# Altium footprint library HV9006_MEASUREBOARD.PCBLIB: 292 footprints (part 16 of 19)
Each footprint in its own frame and in the unit in brackets; x right, y up, seen from the top. Pads: shape width x height; smd on the part's side, far side on the other; paste and mask are expansions set on the pad; w line width, h text height; cw(c..) or ccw(c..) is an arc to the next point about the centre after c.
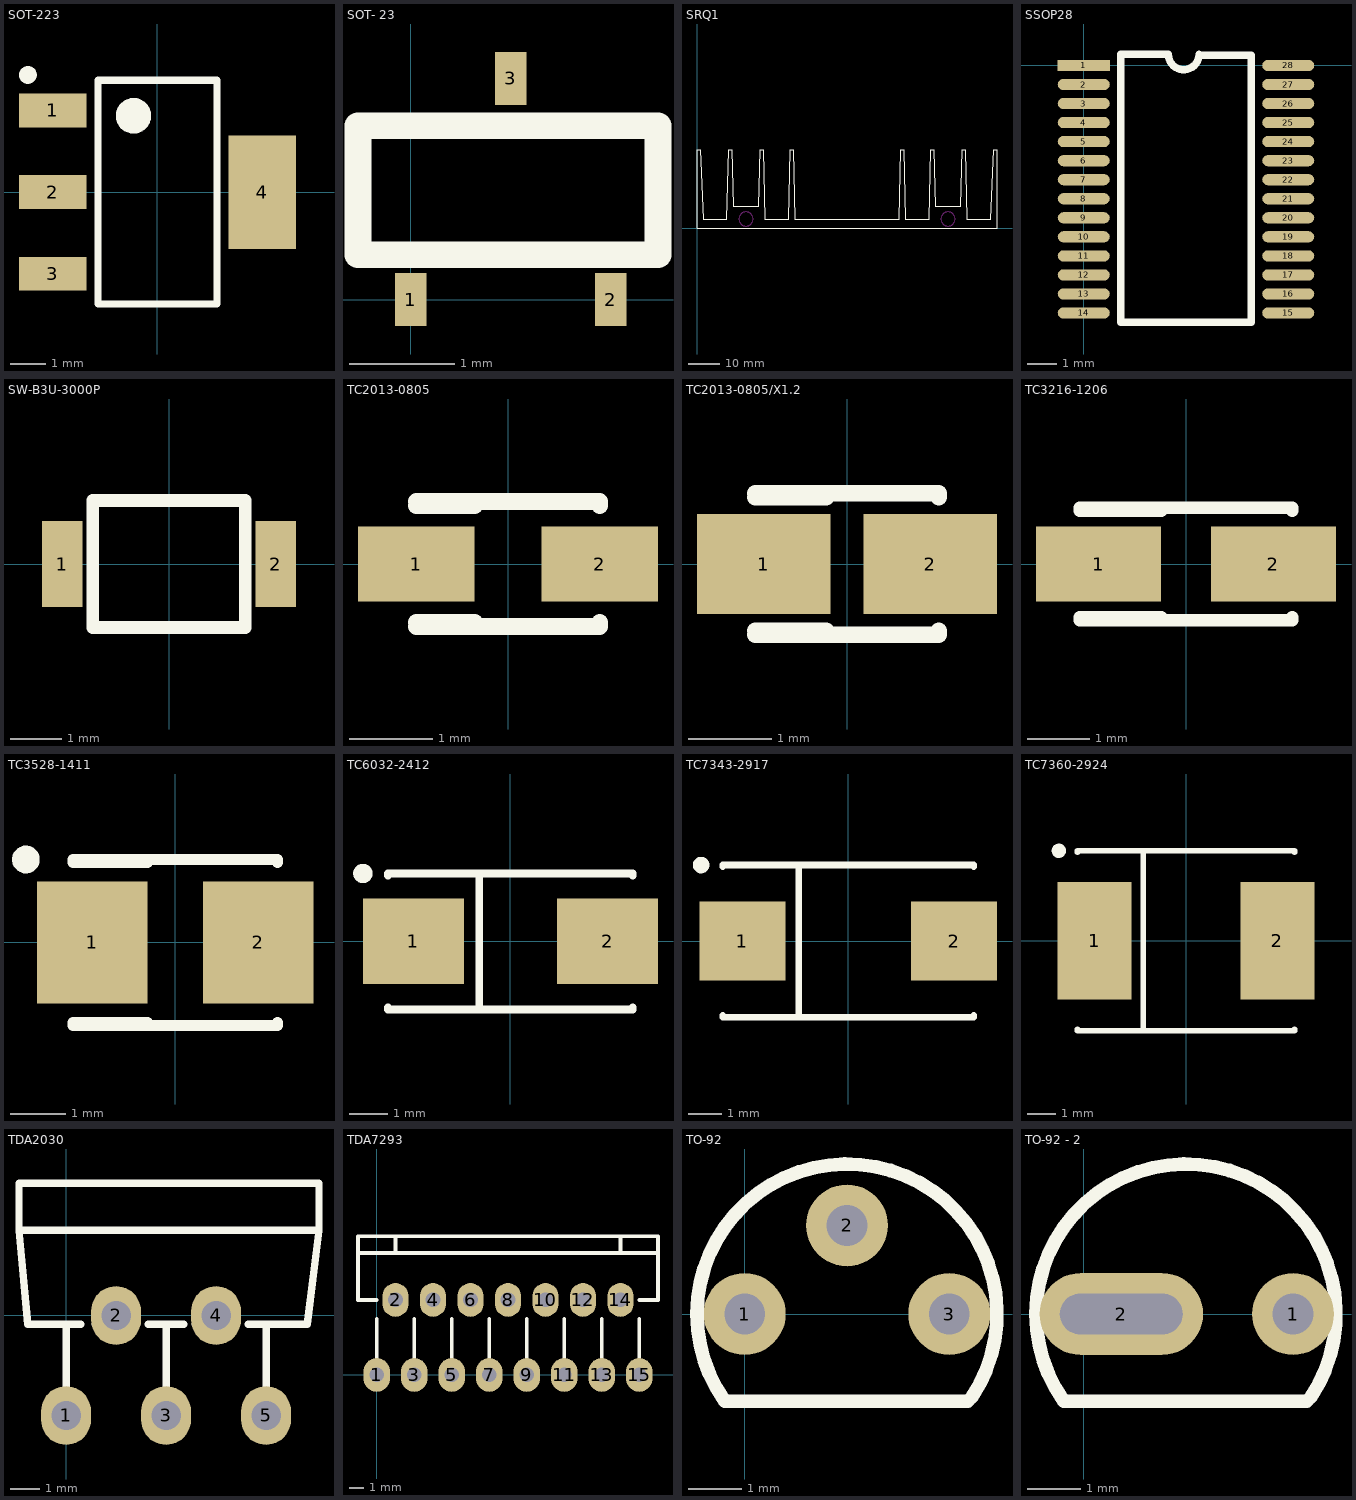
[diagram p15: the footprints below, top view; thin cyan lines are the x and y axes]

## SOT-223 [mm]
pads (4):
  rect 1.9x0.95 smd: 1(-2.95,2.3) 2(-2.95,0) 3(-2.95,-2.3)
  rect 1.9x3.2 smd: 4(2.95,0)
Top Overlay:
  circle w0.5: c-0.675,2.15 r0.25
  circle w0.25: c-3.65,3.3 r0.125
  lines w0.2: -1.675,-3.15 1.675,-3.15 1.675,3.15 -1.675,3.15 -1.675,-3.15

## SOT- 23 [mm]
pads (3):
  rect 0.3x0.5 smd: 1(0,0) 2(1.9,0) 3(0.95,2.1)
Top Overlay:
  lines w0.254: -0.5,0.425 2.35,0.425 2.35,1.65 0.7,1.65 -0.5,1.65 -0.5,0.425

## SRQ1 [mm]
Top Overlay:
  lines w0.254: 94.5,25 94,25 ; 11.5,7 11,25 10,25 9.5,3 2,3 1,25 0,25 0,0 95,0 95,25 94,25 ; 11.5,7 19.5,7 ; 11.5,7 19.5,7 ; 19.5,7 20,25 21,25 21.5,3 29,3 29.5,25 30.5,25 31,3 64,3 64.5,25 ; 64.5,25 65.5,25 ; 64.5,25 65.5,25 ; 65.5,25 66,3 ; 66,3 73.5,3 ; 66,3 73.5,3 ; 73.5,3 74,25 ; 74,25 75,25 ; 74,25 75,25 ; 75,25 75.5,7 ; 75.5,7 83.5,7 ; 75.5,7 83.5,7 ; 83.5,7 84,25 ; 84,25 85,25 ; 84,25 85,25 ; 85,25 85.5,3 ; 85.5,3 93,3 ; 85.5,3 93,3 ; 93,3 94,25
Keep-Out Layer:
  circle w0.254: c79.5,3 r2.25
  circle w0.254: c15.5,3 r2.25
  circle w0.254: c79.5,3 r2.25

## SSOP28 [mil]
pads (28):
  rect 70x15 smd: 1(0,0)
  oval 70x15 smd: 2(0,-25.6) 3(0,-51.2) 4(0,-76.8) 5(0,-102.4) 6(0,-128) 7(0,-153.6) 8(0,-179.2) 9(0,-204.8) 10(0,-230.4) 11(0,-256) 12(0,-281.6) 13(0,-307.2) 14(0,-332.8) 15(275,-332.8) 16(275,-307.2) 17(275,-281.6) 18(275,-256) 19(275,-230.4) 20(275,-204.8) 21(275,-179.2) 22(275,-153.6) 23(275,-128) 24(275,-102.4) 25(275,-76.8) 26(275,-51.2) 27(275,-25.6) 28(275,0)
Top Overlay:
  lines w10: 50,-345 225,-345 225,14 156,14 155,15 cw(c134.38,15) 113.77,15 50,15 50,-345

## SW-B3U-3000P [mm]
pads (2):
  rect 0.8x1.7 smd: 1(-2.1,0) 2(2.1,0)
Top Overlay:
  lines w0.254: -1.5,-1.25 -1.5,1.25 1.5,1.25 1.5,-1.25 -1.5,-1.25
3D body: height 1.2, standoff 0, extent -1.5,-0.6 1.5,0.6
3D body: height 0.1, standoff 0, extent 1.5,-0.3 2.1,0.3
3D body: height 0.1, standoff 0, extent -2.1,-0.3 -1.5,0.3
3D body: height 1, standoff 0.2, extent -0.7,0.6 0.7,1

## TC2013-0805 [mm] "Capacitor, SM Tantalum; Body 2.0 x 1.3 mm (LxW typ)"
height 1.2
pads (2):
  rect 1.4x0.9 smd: 1(-1.1,0) 2(1.1,0)
Top Overlay:
  lines w0.2: -1.1,-0.75 1.1,-0.75 1.1,-0.7 ; -1.1,-0.7 -0.4,-0.7 ; -1.1,0.7 -0.4,0.7 ; -1.1,0.75 1.1,0.75 1.1,0.7

## TC2013-0805/X1.2 [mm] "Capacitor, SM Tantalum; Body 2.0 x 1.25 mm (LxW typ)"
height 1.2
pads (2):
  rect 1.6x1.2 smd: 1(-1,0) 2(1,0)
Top Overlay:
  lines w0.2: -1.1,-0.85 1.1,-0.85 1.1,-0.8 ; -1.1,-0.8 -0.25,-0.8 ; -1.1,0.8 -0.25,0.8 ; -1.1,0.85 1.1,0.85 1.1,0.8

## TC3216-1206 [mm] "Capacitor, SM Tantalum; Body 3.2 x 1.6 mm (LxW typ)"
height 2.2
pads (2):
  rect 2x1.2 smd: 1(-1.4,0) 2(1.4,0)
Top Overlay:
  lines w0.2: -1.7,-0.9 1.7,-0.9 1.7,-0.85 ; -1.7,-0.85 -0.4,-0.85 ; -1.7,0.85 -0.4,0.85 ; -1.7,0.9 1.7,0.9 1.7,0.85

## TC3528-1411 [mm] "Capacitor, SM Tantalum; Body 3.5 x 2.8 mm (LxW typ)"
height 2.5
pads (2):
  rect 2x2.2 smd: 1(-1.5,0) 2(1.5,0)
Top Overlay:
  circle w0.25: c-2.7,1.5 r0.125
  lines w0.2: -1.85,-1.5 1.85,-1.5 1.85,-1.45 ; -1.85,-1.45 -0.5,-1.45 ; -1.85,1.45 -0.5,1.45 ; -1.85,1.5 1.85,1.5 1.85,1.45

## TC6032-2412 [mm] "Capacitor, SM Tantalum; Body 6.0 x 3.2 mm (LxW typ)"
height 3.4
pads (2):
  rect 2.6x2.2 smd: 1(-2.5,0) 2(2.5,0)
Top Overlay:
  circle w0.25: c-3.8,1.75 r0.125
  lines w0.2: -3.15,-1.7 -3.15,-1.75 3.15,-1.75 3.15,-1.7 ; -3.15,1.7 -3.15,1.75 3.15,1.75 3.15,1.7 ; -0.8,-1.75 -0.8,1.75

## TC7343-2917 [mm] "Capacitor, SM Tantalum; Body 7.3 x 4.3 mm (LxW typ)"
height 3.7
pads (2):
  rect 2.6x2.4 smd: 1(-3.2,0) 2(3.2,0)
Top Overlay:
  circle w0.25: c-4.45,2.3 r0.125
  lines w0.2: -3.8,-2.25 -3.8,-2.3 3.8,-2.3 3.8,-2.25 ; -3.8,2.25 -3.8,2.3 3.8,2.3 3.8,2.25 ; -1.5,-2.3 -1.5,2.3

## TC7360-2924 [mm] "Capacitor, SM Tantalum; Body 7.3 x 6.0 mm (LxW typ)"
height 3.8
pads (2):
  rect 2.6x4.1 smd: 1(-3.2,0) 2(3.2,0)
Top Overlay:
  circle w0.25: c-4.45,3.15 r0.125
  lines w0.2: -3.8,-3.1 -3.8,-3.15 3.8,-3.15 3.8,-3.1 ; -3.8,3.1 -3.8,3.15 3.8,3.15 3.8,3.1 ; -1.5,-3.15 -1.5,3.15

## TDA2030 [mm]
pads (5):
  oval 1.7x2 hole 1: 1(0,-3.4) 2(1.7,0) 3(3.4,-3.4) 4(5.1,0) 5(6.8,-3.4)
Top Overlay:
  lines w0.254: 0,-3.4 0,-0.3 ; 0.5,-0.3 -1.3,-0.3 -1.6,2.9 ; 1,-0.3 2.4,-0.3 ; 2.8,-0.3 4,-0.3 ; 3.4,-3.4 3.4,-0.4 ; 4.4,-0.3 5.7,-0.3 ; 6.2,-0.3 8.2,-0.3 8.6,2.9 ; 6.8,-3.4 6.8,-0.3 ; -1.6,2.9 8.6,2.9 ; -1.6,2.9 -1.6,4.5 8.6,4.5 8.6,2.9

## TDA7293 [mil]
pads (15):
  oval 70x90 hole 39: 1(0,0) 2(50,200) 3(100,0) 4(150,200) 5(200,0) 6(250,200) 7(300,0) 8(350,200) 9(400,0) 10(450,200) 11(500,0) 12(550,200) 13(600,0) 14(650,200) 15(700,0)
Top Overlay:
  lines w10: -50,325 750,325 ; 0,0 0,150 ; 0,200 -50,200 -50,370 750,370 750,200 700,200 ; 50,325 50,370 ; 100,0 100,150 ; 200,0 200,150 ; 300,0 300,150 ; 400,0 400,150 ; 500,0 500,150 ; 600,0 600,150 ; 650,325 650,370 ; 700,0 700,150

## TO-92 [mil]
pads (3):
  round 60 hole 30: 1(0,0) 2(75,65) 3(150,0)
Top Overlay:
  lines w10: 163.61,-63.94 -14.51,-63.94 cw(c75,0) 166.53,-61.02

## TO-92 - 2 [mil]
pads (2):
  round 60 hole 30: 1(153.54,0)
  oval 120x60 hole 30 slot 90 at 0 deg: 2(27.56,0)
Top Overlay:
  lines w10: 163.61,-63.94 -14.51,-63.94 cw(c75,0) 166.53,-61.02